# Altium schematic symbol library SCH_Mechanical.SchLib: 1 symbol
Pins are listed as number, name and electrical type; pins without a type are passive.

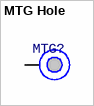
[diagram p0: symbol MTG Hole]

## MTG Hole
designator MTG?  (value not drawn)
footprint MH_4MMD_2.2MMD
pins: 1